# Altium footprint library CONN_EDT.PcbLib: 1 footprints
Each footprint in its own frame and in the unit in brackets; x right, y up, seen from the top. Pads: shape width x height; smd on the part's side, far side on the other; paste and mask are expansions set on the pad; w line width, h text height; cw(c..) or ccw(c..) is an arc to the next point about the centre after c.
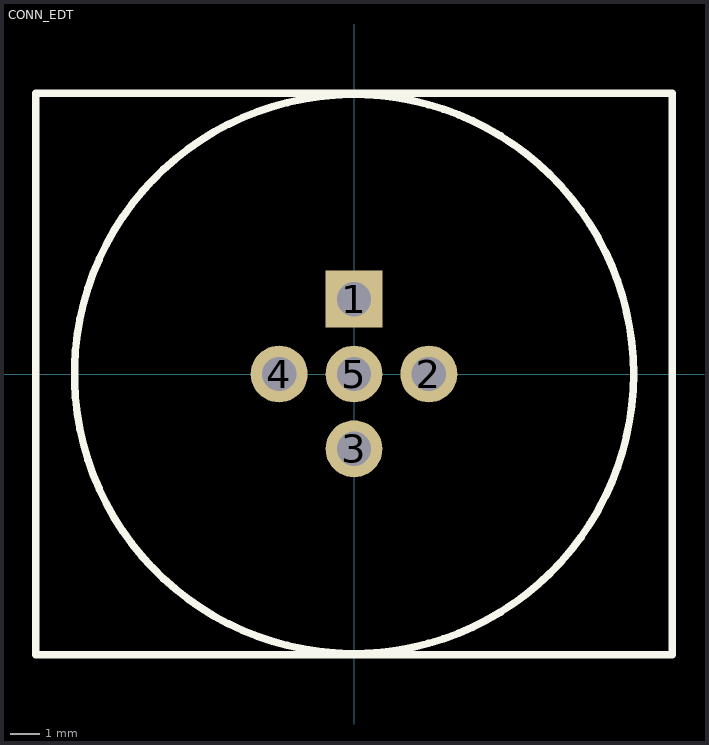
[diagram p0: the footprint, top view; thin cyan lines are the x and y axes]

## CONN_EDT [mil] "EDT Connector"
pads (5):
  rect 76x76 hole 46: 1(0,100)
  round 76 hole 46: 2(100,0) 3(0,-100) 4(-100,0) 5(0,0)
Top Overlay:
  circle w10: c0,0 r373.36
  lines w10: -425,-375 425,-375 425,375 -425,375 -425,-375
3D body: height 1083.86, standoff -116.93, extent -423.23,-374.01 423.2,374.02